# Altium footprint library REGION_CUTOUT.PcbLib: 1 footprints
Each footprint in its own frame and in the unit in brackets; x right, y up, seen from the top. Pads: shape width x height; smd on the part's side, far side on the other; paste and mask are expansions set on the pad; w line width, h text height; cw(c..) or ccw(c..) is an arc to the next point about the centre after c.
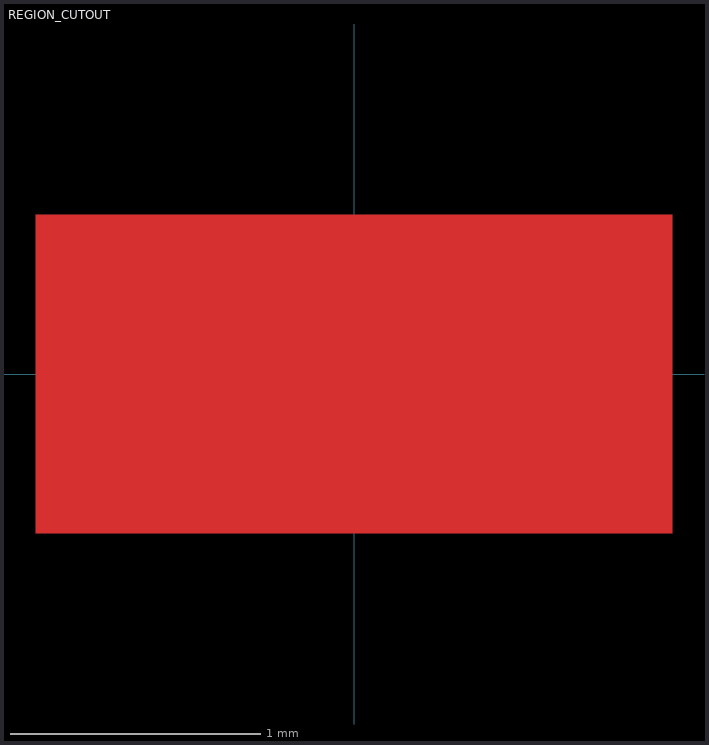
[diagram p0: the footprint, top view; thin cyan lines are the x and y axes]

## REGION_CUTOUT [mm] "Cutout region for polygon pours"
Top Layer:
  pour cut-out: -1.27,0.635 -1.27,-0.635 1.27,-0.635 1.27,0.635